# EAGLE library part PCF8563 (library CEDTv40 (1))
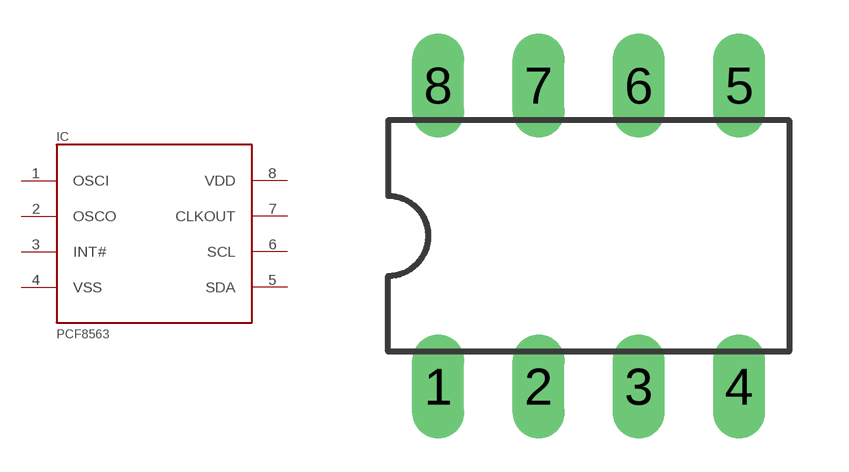
[diagram p15: symbol with the pads of DIL08; footprint DIL08]

Designator prefix IC

## PCF8563  [DIL08]
1  OSCI
2  OSCO
3  INT#
4  VSS
5  SDA
6  SCL
7  CLKOUT
8  VDD

## Footprint DIL08 (pad centres in mm)
Dual In Line Package
drill 0.813 long: 1 -3.81,-3.81; 2 -1.27,-3.81; 3 1.27,-3.81; 4 3.81,-3.81; 5 3.81,3.81; 6 1.27,3.81; 7 -1.27,3.81; 8 -3.81,3.81